# Altium schematic symbol library Shielding_Cabinet_Frame.SchLib: 1 symbol
Pins are listed as number, name and electrical type; pins without a type are passive.

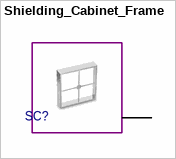
[diagram p0: symbol Shielding_Cabinet_Frame]

## Shielding_Cabinet_Frame
designator SC?  (value not drawn)
pins: 1